# Altium integrated library OPL_Ferrite_and_Magnetic_Bead.IntLib: 4 symbols
Pins are listed as number, name and electrical type; pins without a type are passive.

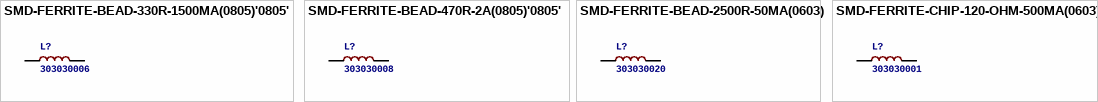
[diagram p0: symbols SMD-FERRITE-BEAD-330R-1500MA(0805)'0805' to SMD-FERRITE-CHIP-120-OHM-500MA(0603)]

## SMD-FERRITE-BEAD-330R-1500MA(0805)'0805'
designator L?, comment 303030006
MPN: BLM21PG331SN1D
footprint L0805
pins: 1, 2

## SMD-FERRITE-BEAD-470R-2A(0805)'0805'
designator L?, comment 303030008
MPN: WLB2012-471T20
footprint L0805
pins: 1, 2

## SMD-FERRITE-BEAD-2500R-50MA(0603)
designator L?, comment 303030020
footprint L0603
pins: 1, 2

## SMD-FERRITE-CHIP-120-OHM-500MA(0603)
designator L?, comment 303030001
MPN: BLM18AG121SN1D
footprint L0603
pins: 1, 2